# Altium schematic symbol library SAMTEC-SFM-115-02-X-D-A.SchLib: 1 symbol
Pins are listed as number, name and electrical type; pins without a type are passive.

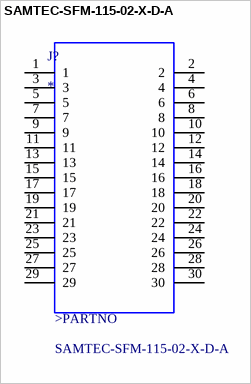
[diagram p0: symbol SAMTEC-SFM-115-02-X-D-A]

## SAMTEC-SFM-115-02-X-D-A
designator J?
MP: SAMTEC-SFM-115-02-X-D-A; MF: Samtec Inc.; Value: *; Package: None; Price: None; Availability: Unavailable
footprint SAMTEC-SFM-115-02-X-D-A
pins: 1, 2, 3, 4, 5, 6, 7, 8, 9, 10, 11, 12, 13, 14, 15, 16, 17, 18, 19, 20, 21, 22, 23, 24, 25, 26, 27, 28, 29, 30
text: >PARTNO